# EAGLE library part ESP8266_BK_8CON (library Custom)
PIN HEADER
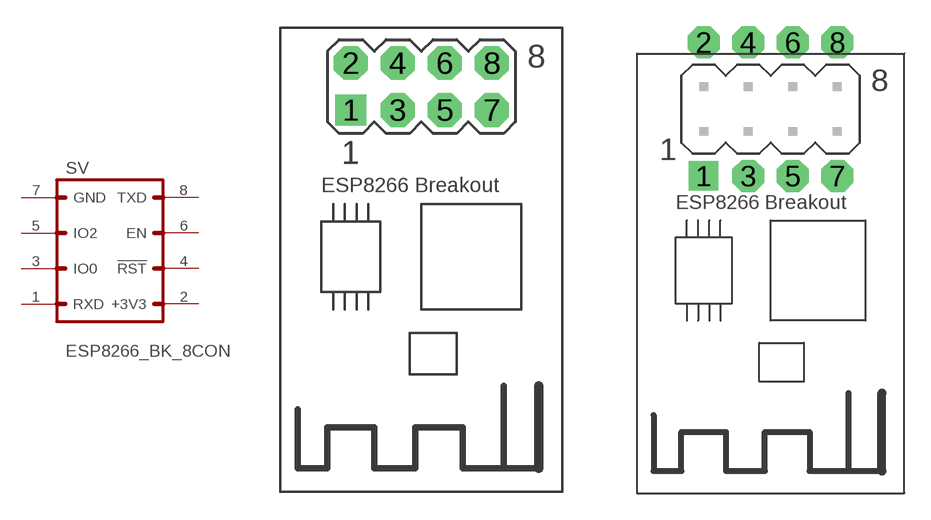
[diagram p58: symbol with the pads of ESP8266_8CON; footprints ESP8266_8CON, ESP8266_8CON_WILD]

Designator prefix SV

## ESP8266_BK_8CONNORM  [ESP8266_8CON]
1  RXD  pas
2  +3V3  pas
3  IO0  pas
4  !RST  pas
5  IO2  pas
6  EN  pas
7  GND  pas
8  TXD  pas

## ESP8266_BK_8CON  [ESP8266_8CON_WILD]
Pads as for ESP8266_8CON

## Footprint ESP8266_8CON (pad centres in mm)
PIN HEADER
drill 1 pad 1.676 square: 1 -3.81,-1.27
drill 1.016 pad 1.829 octagon: 2 -3.81,1.27; 3 -1.27,-1.27; 4 -1.27,1.27; 5 1.27,-1.27; 6 1.27,1.27; 7 3.81,-1.27; 8 3.81,1.27

## Footprint ESP8266_8CON_WILD (pad centres in mm)
PIN HEADER
drill 1 pad 1.676 square: 1 -3.81,-3.81
drill 1.016 pad 1.829 octagon: 2 -3.81,3.81; 3 -1.27,-3.81; 4 -1.27,3.81; 5 1.27,-3.81; 6 1.27,3.81; 7 3.81,-3.81; 8 3.81,3.81